# Altium schematic symbol library Schlib.SchLib: 23 symbols
Pins are listed as number, name and electrical type; pins without a type are passive.

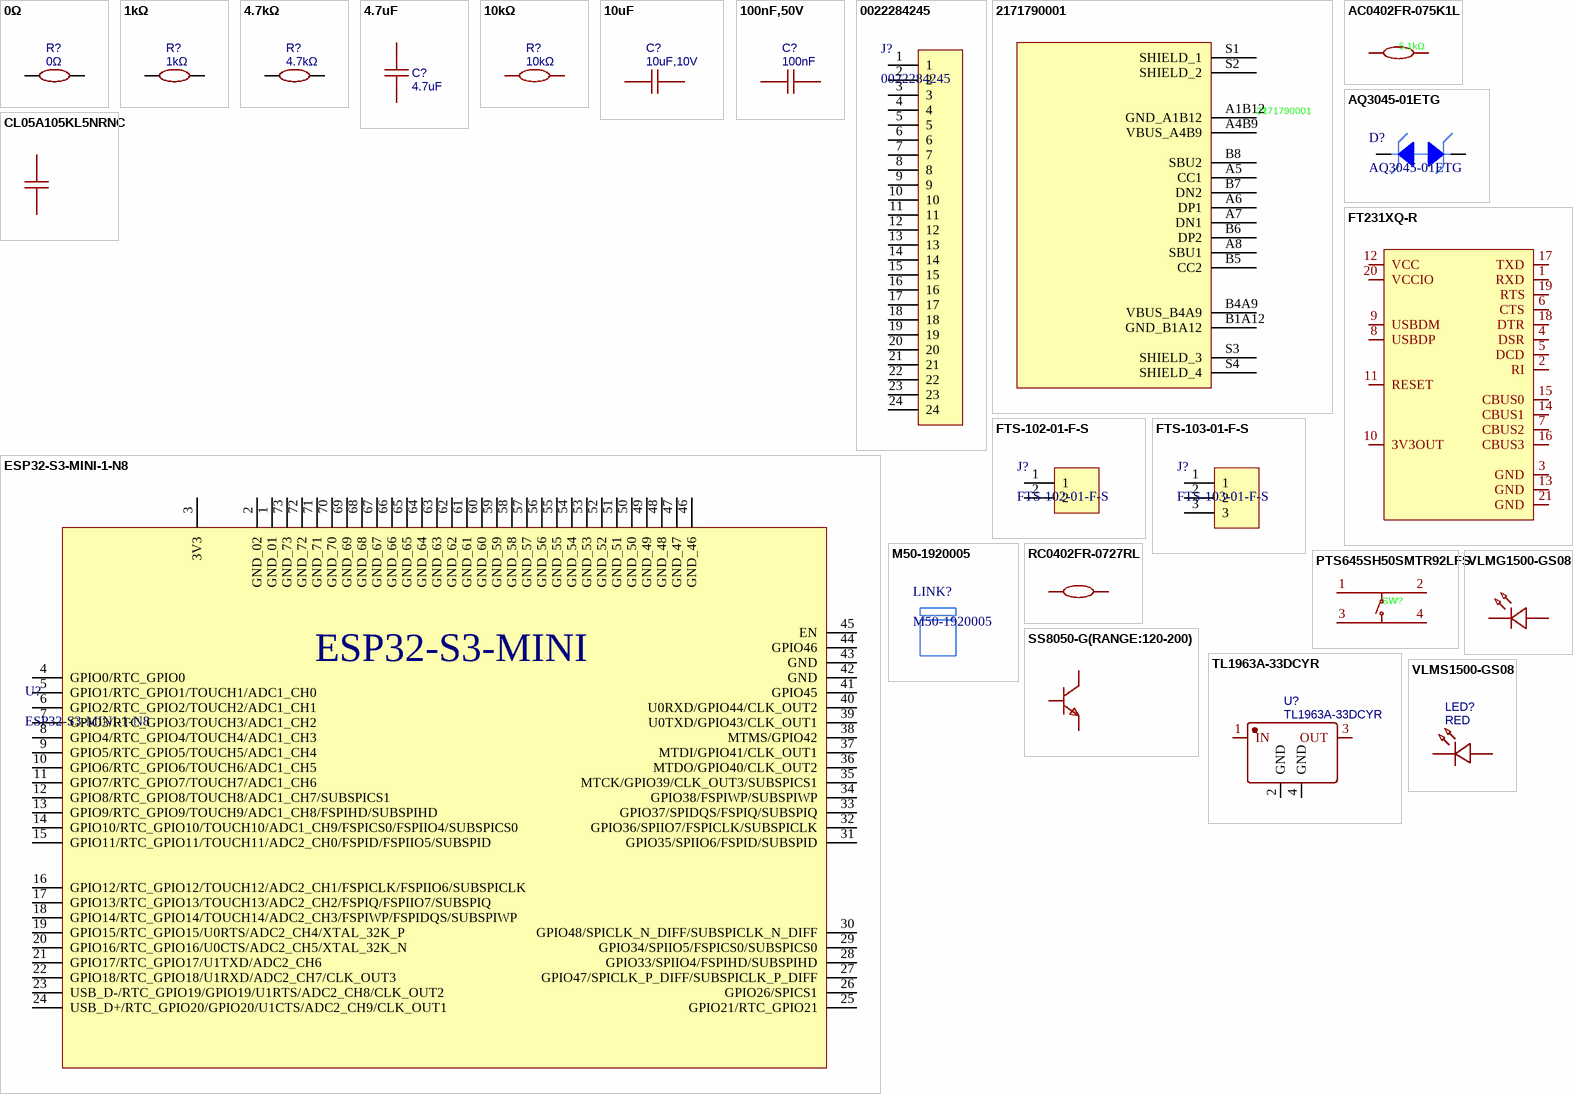
[diagram p0: symbols 0Ω to VLMS1500-GS08]

## 0Ω
designator R?
RES 0 OHM JUMPER 1/16W 0402; Manufacturer: YAGEO(国巨); Manufacturer Part: RC0402FR-070RL; nameAlias: Value; Supplier: LCSC; Supplier Part: C106231; JLCPCB Part Class: Extended Part; spicePre: R; spiceSymbolName: RC0402FR-070RL; LCSC part Number: C106231
footprint R0402
pins: 1, 2

## 1kΩ
designator R?
RES 1K OHM 1% 1/16W 0402; Manufacturer: YAGEO(国巨); Manufacturer Part: RC0402FR-071KL; nameAlias: Value; Supplier: LCSC; Supplier Part: C106235; JLCPCB Part Class: Extended Part; spicePre: R; spiceSymbolName: RC0402FR-071KL; LCSC Part Number: C106235
footprint R0402
pins: 1, 2

## 4.7kΩ
designator R?
RES 4.7K OHM 1% 1/16W 0402; Manufacturer: YAGEO(国巨); Manufacturer Part: RC0402FR-074K7L; nameAlias: Value; Supplier: LCSC; Supplier Part: C105871; JLCPCB Part Class: Extended Part; spicePre: R; spiceSymbolName: RC0402FR-074K7L; LCSC Part Number: C105871
footprint R0402
pins: 1, 2

## 4.7uF
designator C?
CAP CER 4.7UF 16V X5R 0402; Manufacturer: SAMSUNG(三星); Manufacturer Part: CL05A475MO5NUNC; nameAlias: Value; Contributor: LCSC; Supplier: LCSC; Supplier Part: C318563; JLCPCB Part Class: Extended Part; spicePre: C; spiceSymbolName: CL05A475MO5NUNC; LCSC Part Number: C318563
footprint C0402
pins: 1, 2

## 10kΩ
designator R?
RES SMD 10K OHM 1% 1/16W 0402; Manufacturer: YAGEO(国巨); Manufacturer Part: AC0402FR-0710KL; nameAlias: Value; Contributor: LCSC; Supplier: LCSC; Supplier Part: C144807; JLCPCB Part Class: Extended Part; spicePre: R; spiceSymbolName: AC0402FR-0710KL; LCSC Part Number: C144807
footprint R0402
pins: 1, 2

## 10uF
designator C?, comment 10uF,10V
CAP CER 10UF 10V X5R 0402; Manufacturer: muRata(村田); Manufacturer Part: GRM155R61A106ME11D; nameAlias: Value; Contributor: LCSC; Supplier: LCSC; Supplier Part: C408132; JLCPCB Part Class: Extended Part; spicePre: C; spiceSymbolName: GRM155R61A106ME11D; LCSC Part Number: C408132
footprint C0402
pins: 1, 2

## 100nF,50V
designator C?, comment 100nF
CAP CER 0.1UF 50V X7R 0402; Manufacturer: SAMSUNG(三星); Manufacturer Part: CL05B104KB5NNNC; nameAlias: Value; Contributor: LCSC; Supplier: LCSC; Supplier Part: C960916; JLCPCB Part Class: Extended Part; spicePre: C; spiceSymbolName: CL05B104KB5NNNC; LCSC Part Number: C960916
footprint C0402
pins: 1, 2

## 0022284245
designator J?
CONN HEADER VERT 24POS 2.54MM; Parameter 1: *
footprint HDR_1X24_2.54MM
pins: 1, 2, 3, 4, 5, 6, 7, 8, 9, 10, 11, 12, 13, 14, 15, 16, 17, 18, 19, 20, 21, 22, 23, 24

## 2171790001
designator J?
CONN RCP USB2.0 TYP C 24P SMD RA; Manufacturer: MOLEX; Add into BOM: yes; Symbol: 2171790001; Device: 2171790001; LCSC Part Name: 2171790001; Supplier Part: C3197684; Manufacturer Part: 2171790001; Supplier Footprint: SMD; JLCPCB Part Class: Extended Part; Datasheet: https://www.molex.com/content/dam/molex/molex-dot-com/products/automated/en-us/salesdrawingpdf/217/217179/2171790001_sd.pdf?inline\; Supplier: LCSC; Convert to PCB: yes; LCSC Part Number: C3197684
footprint USB-C-SMD_2171790001
3D model USB-C-SMD_2171790001
pins: A1B12 GND_A1B12, A4B9 VBUS_A4B9, A5 CC1, A6 DP1, A7 DN1, A8 SBU1, B1A12 GND_B1A12, B4A9 VBUS_B4A9, B5 CC2, B6 DP2, B7 DN2, B8 SBU2, S1 SHIELD_1, S2 SHIELD_2, S3 SHIELD_3, S4 SHIELD_4

## AC0402FR-075K1L
designator R?, comment 5.1kΩ
RES SMD 5.1K OHM 1% 1/16W 0402; Manufacturer: YAGEO(国巨); Symbol: AC0402FR-075K1L; Add into BOM: yes; Temperature Coefficient: ±100ppm/℃; Device: AC0402FR-075K1L; LCSC Part Name: 厚膜电阻 5.1kΩ ±1% 62.5mW; Supplier Part: C144745; Manufacturer Part: AC0402FR-075K1L; Supplier Footprint: 0402; JLCPCB Part Class: Extended Part; Datasheet: https://atta.szlcsc.com/upload/public/pdf/source/20180927/C229861_4ABDC471507C1ED6AFB4BA66AFC8620A.pdf; Supplier: LCSC; Convert to PCB: yes; Type: Thick Film Resistors; Value: 5.1kΩ; Tolerance: ±1%; Operating Temperature Range: -55℃~+155℃; LCSC Part Number: C144745
footprint R0402
3D model R0402_L1.0-W0.5-H0.4
pins: 1, 2

## AQ3045-01ETG
designator D?
TVS DIODE 5.3VWM 12VC SOD882; LCSC Part Number: C3710326
footprint SOD882
pins: 1, 2

## CL05A105KL5NRNC
designator C?, comment 1uF,35V  (value not drawn)
CAP CER 1UF 35V X5R 0402; Manufacturer: SAMSUNG(三星); Symbol: CL05A105KL5NRNC; Add into BOM: yes; Tolerance: ±10%; Device: CL05A105KL5NRNC; LCSC Part Name: 1uF ±10% 35V; Supplier Part: C307413; Manufacturer Part: CL05A105KL5NRNC; Supplier Footprint: 0402; JLCPCB Part Class: Extended Part; Datasheet: https://atta.szlcsc.com/upload/public/pdf/source/20160218/1457707763339.pdf; Supplier: LCSC; Convert to PCB: yes; Value: 1uF; LCSC Part Number: C307413
footprint C0402
3D model C0402_L1.0-W0.5-H0.5
pins: 1, 2

## ESP32-S3-MINI-1-N8
designator U?
LCSC Part Number: C2913206
footprint XCVR_ESP32-S3-MINI-1-N8
pins: 1 GND_01, 2 GND_02, 3 3V3, 4 GPIO0/RTC_GPIO0, 5 GPIO1/RTC_GPIO1/TOUCH1/ADC1_CH0, 6 GPIO2/RTC_GPIO2/TOUCH2/ADC1_CH1, 7 GPIO3/RTC_GPIO3/TOUCH3/ADC1_CH2, 8 GPIO4/RTC_GPIO4/TOUCH4/ADC1_CH3, 9 GPIO5/RTC_GPIO5/TOUCH5/ADC1_CH4, 10 GPIO6/RTC_GPIO6/TOUCH6/ADC1_CH5, 11 GPIO7/RTC_GPIO7/TOUCH7/ADC1_CH6, 12 GPIO8/RTC_GPIO8/TOUCH8/ADC1_CH7/SUBSPICS1, 13 GPIO9/RTC_GPIO9/TOUCH9/ADC1_CH8/FSPIHD/SUBSPIHD, 14 GPIO10/RTC_GPIO10/TOUCH10/ADC1_CH9/FSPICS0/FSPIIO4/SUBSPICS0, 15 GPIO11/RTC_GPIO11/TOUCH11/ADC2_CH0/FSPID/FSPIIO5/SUBSPID, 16 GPIO12/RTC_GPIO12/TOUCH12/ADC2_CH1/FSPICLK/FSPIIO6/SUBSPICLK, 17 GPIO13/RTC_GPIO13/TOUCH13/ADC2_CH2/FSPIQ/FSPIIO7/SUBSPIQ, 18 GPIO14/RTC_GPIO14/TOUCH14/ADC2_CH3/FSPIWP/FSPIDQS/SUBSPIWP, 19 GPIO15/RTC_GPIO15/U0RTS/ADC2_CH4/XTAL_32K_P, 20 GPIO16/RTC_GPIO16/U0CTS/ADC2_CH5/XTAL_32K_N, 21 GPIO17/RTC_GPIO17/U1TXD/ADC2_CH6, 22 GPIO18/RTC_GPIO18/U1RXD/ADC2_CH7/CLK_OUT3, 23 USB_D-/RTC_GPIO19/GPIO19/U1RTS/ADC2_CH8/CLK_OUT2, 24 USB_D+/RTC_GPIO20/GPIO20/U1CTS/ADC2_CH9/CLK_OUT1, 25 GPIO21/RTC_GPIO21, 26 GPIO26/SPICS1, 27 GPIO47/SPICLK_P_DIFF/SUBSPICLK_P_DIFF, 28 GPIO33/SPIIO4/FSPIHD/SUBSPIHD, 29 GPIO34/SPIIO5/FSPICS0/SUBSPICS0, 30 GPIO48/SPICLK_N_DIFF/SUBSPICLK_N_DIFF, 31 GPIO35/SPIIO6/FSPID/SUBSPID, 32 GPIO36/SPIIO7/FSPICLK/SUBSPICLK, 33 GPIO37/SPIDQS/FSPIQ/SUBSPIQ, 34 GPIO38/FSPIWP/SUBSPIWP, 35 MTCK/GPIO39/CLK_OUT3/SUBSPICS1, 36 MTDO/GPIO40/CLK_OUT2, 37 MTDI/GPIO41/CLK_OUT1, 38 MTMS/GPIO42, 39 U0TXD/GPIO43/CLK_OUT1, 40 U0RXD/GPIO44/CLK_OUT2, 41 GPIO45, 42 GND, 43 GND, 44 GPIO46, 45 EN, 46 GND_46, 47 GND_47, 48 GND_48, 49 GND_49, 50 GND_50, 51 GND_51, 52 GND_52, 53 GND_53, 54 GND_54, 55 GND_55, 56 GND_56, 57 GND_57, 58 GND_58, 59 GND_59, 60 GND_60, 61 GND_61, 62 GND_62, 63 GND_63, 64 GND_64, 65 GND_65, 66 GND_66, 67 GND_67, 68 GND_68, 69 GND_69, 70 GND_70, 71 GND_71, 72 GND_72, 73 GND_73
text: ESP32-S3-MINI

## FT231XQ-R
designator U?  (value not drawn)
IC USB SERIAL FULL UART 20QFN; Manufacturer: FTDI(飞特帝亚); Add into BOM: yes; Applications Function: USB to UART; Voltage - Supply: 3.3V~5V; Symbol: FT231XQ-R; Device: FT231XQ-R; LCSC Part Name: FT231X USB至全握手UART IC; Supplier Part: C132159; Manufacturer Part: FT231XQ-R; Supplier Footprint: QFN-20-EP(4x4); JLCPCB Part Class: Extended Part; Datasheet: https://atta.szlcsc.com/upload/public/pdf/source/20171113/C132160_15105610735521115430.pdf; Supplier: LCSC; Convert to PCB: yes; Protocol: -; Operating Temperature: -40℃~+85℃; LCSC Part Number: C132159
footprint QFN-20_L4.0-W4.0-P0.50-BL-EP2.2
3D model QFN-20_L4.0-W4.0-H0.8-P0.50
pins: 1 RXD, 2 RI, 3 GND, 4 DSR, 5 DCD, 6 CTS, 7 CBUS2, 8 USBDP, 9 USBDM, 10 3V3OUT, 11 RESET, 12 VCC, 13 GND, 14 CBUS1, 15 CBUS0, 16 CBUS3, 17 TXD, 18 DTR, 19 RTS, 20 VCCIO, 21 GND

## FTS-102-01-F-S
designator J?
CONN HEADER VERT 24POS 2.54MM; LCSC Part Number: C6045317
footprint HDR_1X2_1.27MM
pins: 1, 2

## FTS-103-01-F-S
designator J?
CONN HEADER VERT 3POS 1.27MM; LCSC Part Number: C3333578
footprint HDR_1X3_1.27MM
pins: 1, 2, 3

## M50-1920005
designator LINK?  (mechanical)
CONN SHUNT 1.27MM RED; LCSC Part Number: C6985646

## PTS645SH50SMTR92LFS
designator SW?  (value not drawn)
Tactile Switch SPST-NO Top Actuated Surface Mount; Manufacturer: C&K; Add into BOM: yes; Circuit: SPST; Actuator Style: Round Button; Operating Force: 200gf; Switch Length: 6mm; Switch Height: 5mm; Contact Current: 50mA; Voltage Rating (DC): 12V; Pin Style: Gullwing; Symbol: PTS645SH50SMTR92LFS; Device: PTS645SH50SMTR92LFS; LCSC Part Name: 6*6*5mm 立贴 轻触开关; Supplier Part: C221869; Manufacturer Part: PTS645SH50SMTR92LFS; Supplier Footprint: SMD,6x6mm; JLCPCB Part Class: Extended Part; Datasheet: https://atta.szlcsc.com/upload/public/pdf/source/20190108/C285530_E89B379DE8DD14E424006A6061D0203A.pdf; Supplier: LCSC; Convert to PCB: yes; Mounting Style: Standing paste; Switch Width: 6mm; With Lamp: -; Mechanical Life: -; Operating Temperature: -40℃~+85℃; LCSC Part Number: C221869
footprint KEY-SMD_4P-L6.0-W6.0-P4.50-LS9.0
3D model KEY-SMD_4P-L6.0-W6.0-H5.0-LS10.0-P4.50
footprint KEY-SMD_4P-L6.0-W6.0-P4.50-LS9.0
pins: 1, 2, 3, 4

## RC0402FR-0727RL
designator R?, comment 27Ω  (value not drawn)
RES 27 OHM 1% 1/16W 0402; Manufacturer: YAGEO(国巨); Symbol: RC0402FR-0727RL; Add into BOM: yes; Temperature Coefficient: ±100ppm/℃; Device: RC0402FR-0727RL; LCSC Part Name: 厚膜电阻 27Ω ±1% 62.5mW; Supplier Part: C138021; Manufacturer Part: RC0402FR-0727RL; Supplier Footprint: 0402; JLCPCB Part Class: Extended Part; Datasheet: https://atta.szlcsc.com/upload/public/pdf/source/20181009/C309620_DA5935B6E1D48212CB7A533FE518B3C2.pdf; Supplier: LCSC; Convert to PCB: yes; Type: Thick Film Resistors; Value: 27Ω; Tolerance: ±1%; Operating Temperature Range: -55℃~+155℃; LCSC Part Number: C138021
footprint R0402
3D model R0402_L1.0-W0.5-H0.4
pins: 1, 2

## SS8050-G(RANGE:120-200)
designator Q?  (value not drawn)
TRANS NPN 25V 1.5A SOT-23-3; Manufacturer: CJ(江苏长电/长晶); Add into BOM: yes; Pd - Power Dissipation: 300mW; DC Current Gain: 120@100mA,1V; Transition frequency(fT): 100MHz; Current - Collector Cutoff: 100nA; Vce Saturation(VCE(sat)): 500mV; Symbol: SS8050-G; Device: SS8050-G(RANGE:120-200); LCSC Part Name: L档(120-200); Supplier Part: C164886; Manufacturer Part: SS8050-G(RANGE:120-200); Supplier Footprint: SOT-23; JLCPCB Part Class: Extended Part; Datasheet: https://atta.szlcsc.com/upload/public/pdf/source/20180130/C177739_15172974524031323483.pdf; Supplier: LCSC; Convert to PCB: yes; type: NPN; Operating Temperature: -55℃~+150℃; LCSC Part Number: C164886
footprint SOT-23-3_L2.9-W1.3-P1.90-LS2.4-BR
3D model SOT-23-3P_L2.9-W1.3-H1.0-LS2.4-P0.95
pins: 1 B, 2 E, 3 C

## TL1963A-33DCYR
designator U?
IC REG LIN 3.3V 1.5A SOT-223-4; Manufacturer: TI(德州仪器); Contributor: LCSC; Supplier: LCSC; Manufacturer Part: TL1963A-33DCYR; Supplier Part: C181262; JLCPCB Part Class: Extended Part; spicePre: U; spiceSymbolName: TL1963A-33DCYR; LCSC Part Number: C181262
footprint SOT-223_L6.5-W3.5-P2.30-LS7.0-BR
pins: 1 IN, 2 GND, 3 OUT, 4 GND

## VLMG1500-GS08
designator LED?  (value not drawn)
LED YLW-GRN 0402 SMD; Manufacturer: VISHAY(威世); Add into BOM: yes; Emitted Color: Green-yellow; Forward Voltage (VF): 2V; Forward Current: 20mA; Dominant Wavelength: 571nm; Peak Wavelength: 574nm; Luminous Intensity: 35mcd; Viewing Angle: 130°; Symbol: VLMG1500-GS08; Device: VLMG1500-GS08; LCSC Part Name: 普绿/黄绿; Supplier Part: C511404; Manufacturer Part: VLMG1500-GS08; Supplier Footprint: 0402; JLCPCB Part Class: Extended Part; Datasheet: https://atta.szlcsc.com/upload/public/pdf/source/20200408/C511042_90D3007A8FB4E63E401D7A77D5F44EFD.pdf; Supplier: LCSC; Convert to PCB: yes
footprint LED0402-RD_GREEN
3D model LED0402_L1.0-W0.5-H0.2
pins: 1 K, 2 A

## VLMS1500-GS08
designator LED?, comment RED
LED RED 0402 SMD; Manufacturer: VISHAY(威世); Manufacturer Part: VLMS1500-GS08; Contributor: LCSC; Supplier: LCSC; Supplier Part: C511370; JLCPCB Part Class: Extended Part; spicePre: L; spiceSymbolName: VLMS1500-GS08
footprint LED0402-RD_RED
pins: 1 -, 2 +